# Altium schematic symbol library Relays.SchLib: 2 symbols
Pins are listed as number, name and electrical type; pins without a type are passive.

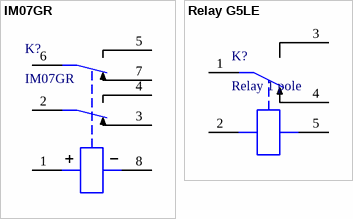
[diagram p0: symbols IM07GR to Relay G5LE]

## IM07GR
designator K?
Signal relay; ComponentLink1Description: Datasheet; ComponentLink1URL: http://www.te.com/commerce/DocumentDelivery/DDEController?Action=srchrtrv&DocNm=CVM_1462037-2&DocType=Customer+View+Model&DocLang=3D&DocFormat=pdf&PartCntxt=4-1462037-7; Supplier1: Compel; Supplier Part Number 1: 4-1462037-7
footprint IM0XGR (IM 1-pole, 2 Form C, SMT, Gull Wings)
pins: 1, 2, 3, 4, 5, 6, 7, 8

## Relay G5LE
designator K?, comment Relay 1 pole
Relay G5LE 10A Single Pole
footprint G5LA (Cubic, Single-pole 10A Power Relay)
pins: 1, 2, 3, 4, 5